# Altium footprint library ERBB.PcbLib: 9 footprints
Each footprint in its own frame and in the unit in brackets; x right, y up, seen from the top. Pads: shape width x height; smd on the part's side, far side on the other; paste and mask are expansions set on the pad; w line width, h text height; cw(c..) or ccw(c..) is an arc to the next point about the centre after c.
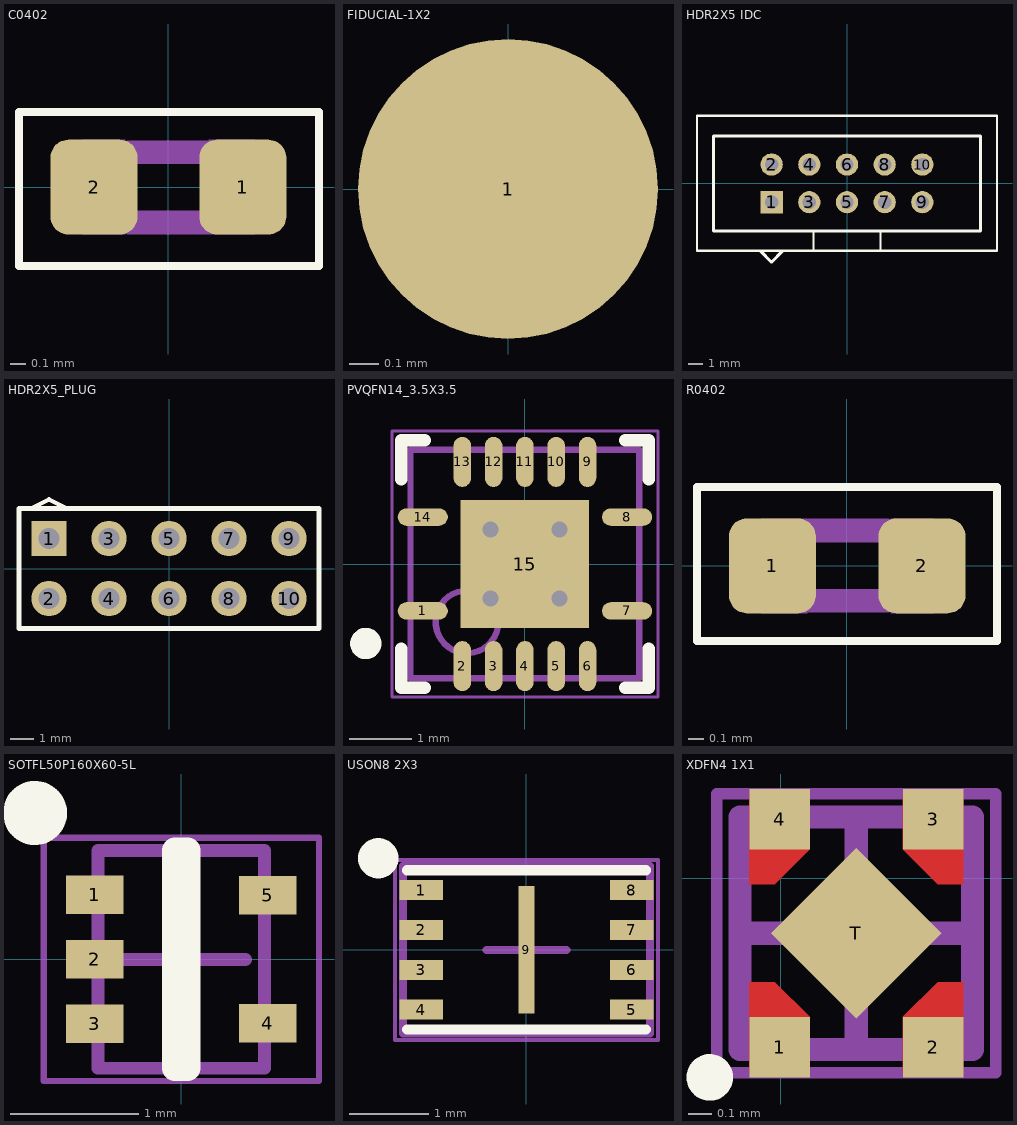
[diagram p0: the footprints below, top view; thin cyan lines are the x and y axes]

## C0402 [mil]
height 23.62
pads (2):
  rrect40% 22x24 smd: 1(18.85,0) 2(-18.85,0)
Top Overlay:
  lines w2: -37.85,-20 -37.85,19.02 38.14,19.02 38.14,-20 -37.85,-20
Mechanical 8:
  region: 21.95,12 10.13,12 10.13,-12 21.95,-12
  region: -10.85,12 -21.85,12 -21.85,-12 -10.85,-12
  lines w6: -9.85,-9 9.8,-9 ; -9.85,8.82 9.8,8.82
Mechanical 15:
  lines w2: -37.85,-20 38.14,-20 38.14,19.02 -37.85,19.02 -37.85,-20
3D body: height 19.68, standoff 0, extent -19.85,-10 20.15,10

## FIDUCIAL-1X2 [mil]
height 25.59
pads (1):
  rrect100% 40x40 smd paste-3897.64 mask+20: 1(0,0)
3D body: height 0.79, standoff 0, extent -19.84,-19.96 20.01,19.97

## HDR2X5 IDC [mm] "Connector; Header; 5x2 Position"
height 0.6
pads (10):
  rect 1.5x1.5 hole 0.9: 1(-5.08,-1.27)
  round 1.5 hole 0.9: 2(-5.08,1.27) 3(-2.54,-1.27) 4(-2.54,1.27) 5(0,-1.27) 6(0,1.27) 7(2.54,-1.27) 8(2.54,1.27) 9(5.08,-1.27) 10(5.08,1.27)
Top Overlay:
  lines w0.152: -2.25,-4.55 -2.25,-3.2 ; 2.25,-4.55 2.25,-3.2 ; -10.11,-4.55 10.11,-4.55 10.11,4.55 -10.11,4.55 -10.11,-4.55
  lines w0.2: -9.01,-3.2 9.01,-3.2 9.01,3.2 -9.01,3.2 -9.01,-3.2
  lines w0.203: -5.842,-4.55 -5.083,-5.309 -4.325,-4.55
Mechanical 1:
  lines w0.152: -5.33,-1.52 -4.83,-1.52 -4.83,-1.02 -5.33,-1.02 -5.33,-1.52 ; -5.33,1.02 -4.83,1.02 -4.83,1.52 -5.33,1.52 -5.33,1.02 ; -2.79,-1.52 -2.29,-1.52 -2.29,-1.02 -2.79,-1.02 -2.79,-1.52 ; -2.79,1.02 -2.29,1.02 -2.29,1.52 -2.79,1.52 -2.79,1.02 ; -0.25,-1.52 0.25,-1.52 0.25,-1.02 -0.25,-1.02 -0.25,-1.52 ; -0.25,1.02 0.25,1.02 0.25,1.52 -0.25,1.52 -0.25,1.02 ; 2.29,-1.52 2.79,-1.52 2.79,-1.02 2.29,-1.02 2.29,-1.52 ; 2.29,1.02 2.79,1.02 2.79,1.52 2.29,1.52 2.29,1.02 ; 4.83,-1.52 5.33,-1.52 5.33,-1.02 4.83,-1.02 4.83,-1.52 ; 4.83,1.02 5.33,1.02 5.33,1.52 4.83,1.52 4.83,1.02
3D body: height 9.1, standoff -3.1, extent 4.831,1.021 5.329,1.519
3D body: height 9.1, standoff -3.1, extent 2.291,1.021 2.789,1.519
3D body: height 9.1, standoff -3.1, extent 4.831,-1.519 5.329,-1.021
3D body: height 9.1, standoff -3.1, extent 2.291,-1.519 2.789,-1.021
3D body: height 9.1, standoff -3.1, extent -0.249,1.021 0.249,1.519
3D body: height 9.1, standoff -3.1, extent -2.789,1.021 -2.291,1.519
3D body: height 9.1, standoff -3.1, extent -5.329,1.021 -4.831,1.519
3D body: height 9.1, standoff -3.1, extent -0.249,-1.519 0.249,-1.021
3D body: height 9.1, standoff -3.1, extent -5.329,-1.519 -4.831,-1.021
3D body: height 9.1, standoff -3.1, extent -2.789,-1.519 -2.291,-1.021
3D body: height 9.1, standoff 0, extent -10.109,-4.549 10.109,4.549
3D body: height 2, standoff 0, extent -10.186,-4.626 10.186,4.626

## HDR2X5_PLUG [mm] "Connector; Header; 5x2 Position"
pads (10):
  rect 1.5x1.5 hole 0.9: 1(-5.08,1.27)
  round 1.5 hole 0.9: 2(-5.08,-1.27) 3(-2.54,1.27) 4(-2.54,-1.27) 5(0,1.27) 6(0,-1.27) 7(2.54,1.27) 8(2.54,-1.27) 9(5.08,1.27) 10(5.08,-1.27)
Top Overlay:
  lines w0.2: -6.35,-2.54 -6.35,2.54 6.35,2.54 6.35,-2.54 -6.35,-2.54
  lines w0.203: -5.842,2.54 -5.08,2.921 -4.318,2.54
3D body: height 6.35, standoff 0, extent -6.45,-2.64 6.45,2.64

## PVQFN14_3.5X3.5 [mm] "QFN, 14-Leads, Body 3.50x3.50mm, Pitch 1.50mm/0.50mm, Thermal Pad 2.05x2.05mm, IPC High Density"
height 1
pads (15):
  oval 0.8x0.28 smd: 1(-1.631,-0.75) 7(1.631,-0.75) 8(1.631,0.75) 14(-1.631,0.75)
  oval 0.28x0.8 smd: 2(-1,-1.631) 3(-0.5,-1.631) 4(0,-1.631) 5(0.5,-1.631) 6(1,-1.631) 9(1,1.631) 10(0.5,1.631) 11(0,1.631) 12(-0.5,1.631) 13(-1,1.631)
  rect 2.05x2.05 smd paste-1.143: 15(0,0)
via 0.55,0.55 diameter 0.559 hole 0.254
via 0.55,-0.55 diameter 0.559 hole 0.254
via -0.55,0.55 diameter 0.559 hole 0.254
via -0.55,-0.55 diameter 0.559 hole 0.254
Top Overlay:
  circle w0.25: c-2.54,-1.27 r0.125
  lines w0.2: -1.975,-1.35 -1.975,-1.975 -1.6,-1.975 ; -1.975,1.35 -1.975,1.975 -1.6,1.975 ; 1.6,-1.975 1.975,-1.975 1.975,-1.35 ; 1.6,1.975 1.975,1.975 1.975,1.35
Top Paste:
  region: -0.84,-0.84 -0.84,-0.12 -0.11,-0.12 -0.11,-0.84
  region: 0.84,-0.84 0.12,-0.84 0.12,-0.11 0.84,-0.11
  region: 0.84,0.84 0.84,0.12 0.11,0.12 0.11,0.84
  region: -0.84,0.84 -0.12,0.84 -0.12,0.11 -0.84,0.11
Top Solder:
  rectangle: -1.346,-2.134 1.295,2.134
Mechanical 13:
  circle w0.1: c-0.925,-0.925 r0.5
  lines w0.1: -1.825,-1.825 -1.825,1.825 1.825,1.825 1.825,-1.825 -1.825,-1.825
Mechanical 15:
  lines w0.05: -2.125,-2.125 -2.125,2.125 2.125,2.125 2.125,-2.125 -2.125,-2.125
  lines w0.1: -0.5,0 0.5,0 ; 0,-0.5 0,0.5
3D body: height 1, standoff 0.08, extent -1.825,-1.825 1.825,1.825

## R0402 [mil]
height 23.62
pads (2):
  rrect40% 22x24 smd: 1(-18.9,0) 2(19,0)
Top Overlay:
  lines w2: -37.99,-19.02 -37.99,20 38,20 38,-19.02 -37.99,-19.02
Mechanical 8:
  rectangle: -21.81,-12 -10,12
  rectangle: 11,-12 22,12
  lines w6: -9.65,-8.82 10,-8.82 ; -9.65,9 10,9
Mechanical 15:
  lines w2: -37.99,-19.02 38,-19.02 38,20 -37.99,20 -37.99,-19.02
3D body: height 13.78, standoff 0, extent -20,-10 20,10

## SOTFL50P160X60-5L [mm] "SOTFL, 5-Leads, Body 1.60x1.60mm, Pitch 0.50mm, IPC High Density"
height 0.6
pads (5):
  rect 0.45x0.3 smd: 1(-0.675,0.503) 2(-0.675,0) 3(-0.675,-0.503) 4(0.675,-0.5) 5(0.675,0.5)
Top Overlay:
  circle w0.25: c-1.143,1.143 r0.125
  lines w0.2: -0.05,-0.85 -0.05,0.85 0.05,0.85 0.05,-0.85 -0.05,-0.85
Mechanical 13:
  lines w0.1: -0.65,-0.85 0.65,-0.85 0.65,0.85 -0.65,0.85 -0.65,-0.85
Mechanical 15:
  lines w0.05: -1.075,-0.95 1.075,-0.95 1.075,0.95 -1.075,0.95 -1.075,-0.95
  lines w0.1: -0.5,0 0.5,0 ; 0,-0.5 0,0.5
3D body "SOTFL50P160X60-5L.step": height 0.6, standoff 0, extent -0.8,-0.848 0.8,0.848

## USON8 2X3 [mm]
height 0.6
pads (10):
  rect 0.55x0.25 smd paste-0.025 mask+0.051: 1(-1.32,0.75) 2(-1.32,0.25) 3(-1.32,-0.25) 4(-1.32,-0.75) 5(1.32,-0.75) 6(1.32,-0.25) 7(1.32,0.25) 8(1.32,0.75)
  rect 0.2x1.6 smd paste-0.025 mask+0.051: 9(0,0)
  round 0.508 on Top Overlay mask+0.051: ""(-1.86,1.15)
Top Overlay:
  lines w0.127: -1.5,-1 1.5,-1 ; -1.5,1 1.5,1
Mechanical 13:
  lines w0.1: -1.55,-1.05 1.55,-1.05 1.55,1.05 -1.55,1.05 -1.55,-1.05
Mechanical 15:
  lines w0.05: -1.65,-1.13 1.65,-1.13 1.65,1.13 -1.65,1.13 -1.65,-1.13
  lines w0.1: -0.5,0 0.5,0 ; 0,-0.5 0,0.5
3D body "USON8 2X3.step": height 0.6, standoff 0, extent -1.55,-1.051 1.55,1.051

## XDFN4 1X1 [mm]
height 0.43
pads (5):
  rect 0.26x0.26 smd paste-0.2 mask-0.152: 1(-0.005,-0.725) 2(0.655,-0.725) 3(0.655,0.255) 4(-0.005,0.255)
  rect 0.52x0.52 smd rot 45 mask+0: T(0.325,-0.235)
Top Layer:
  region: 0.785,-0.025 0.675,-0.025 0.525,0.125 0.525,0.365 0.785,0.365
  region: -0.135,-0.445 -0.025,-0.445 0.125,-0.595 0.125,-0.835 -0.135,-0.835
  region: 0.785,-0.445 0.675,-0.445 0.525,-0.595 0.525,-0.835 0.785,-0.835
  region: -0.135,-0.025 -0.025,-0.025 0.125,0.125 0.125,0.365 -0.135,0.365
Top Overlay:
  circle w0.1: c-0.305,-0.855 r0.05
Top Paste:
  region: -0.11,0.359 -0.11,0 -0.025,0 0.099,0.125 0.099,0.359
  region: 0.759,0.359 0.759,0 0.675,0 0.55,0.125 0.55,0.359
  region: 0.759,-0.83 0.759,-0.471 0.675,-0.471 0.55,-0.595 0.55,-0.83
  region: -0.11,-0.83 -0.11,-0.471 -0.025,-0.471 0.099,-0.595 0.099,-0.83
Top Solder:
  region: -0.135,-0.025 -0.025,-0.025 0.125,0.125 0.125,0.385 -0.135,0.385
  region: 0.785,-0.445 0.675,-0.445 0.525,-0.595 0.525,-0.855 0.785,-0.855
  region: -0.135,-0.855 0.125,-0.855 0.125,-0.595 -0.025,-0.445 -0.135,-0.445
  region: 0.785,0.385 0.525,0.385 0.525,0.125 0.675,-0.025 0.785,-0.025
Mechanical 13:
  lines w0.1: -0.175,-0.735 -0.175,0.265 0.825,0.265 0.825,-0.735 -0.175,-0.735
Mechanical 15:
  lines w0.05: -0.275,-0.835 -0.275,0.365 0.925,0.365 0.925,-0.835 -0.275,-0.835
  lines w0.1: -0.175,-0.235 0.825,-0.235 ; 0.325,-0.735 0.325,0.265
3D body: height 0.43, standoff 0, extent -0.175,-0.735 0.825,0.265